# Altium schematic symbol library CVC_power.SCHLIB: 7 symbols
Pins are listed as number, name and electrical type; pins without a type are passive.

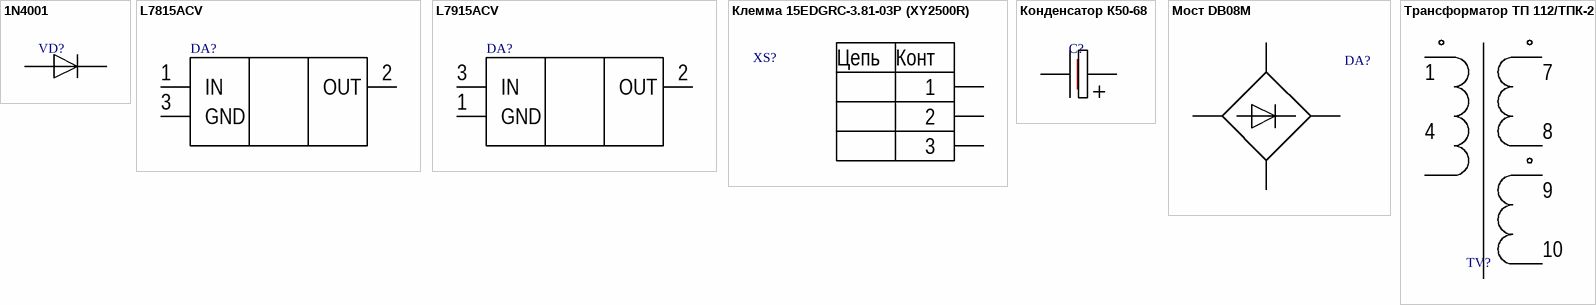
[diagram p0: symbols 1N4001 to Трансформатор ТП 112/ТПК-2]

## 1N4001
designator VD?  (value not drawn)
type: диоды
footprint DO-41
pins: 1 A, 2 K

## L7815ACV
designator DA?  (value not drawn)
type: микросхемы аналоговые
footprint TO220ABN
pins: 1 IN (power), 2 OUT (power), 3 GND (power)

## L7915ACV
designator DA?  (value not drawn)
type: микросхемы аналоговые
footprint TO220V
pins: 1 GND (power), 2 OUT (power), 3 IN (power)

## Клемма 15EDGRC-3.81-03P (XY2500R)
designator XS?  (value not drawn)
name: Клемма 15EDGRC-3.81-03P; type: коннекторы
footprint 15EDGRC-3.81-03P (XY2500R - клемма контакная угловая)
pins: 1, 2, 3
text: Цепь; Конт

## Конденсатор К50-68
designator C?  (value not drawn)
Электролитический конденсатор; dopusk: +80-20%; type: конденсаторы; codegr: 1002060109; name: К50-68; enter: *
footprint CAPPR2-5X11
footprint CAPPR7.5-16X30
footprint CAPPR5-10x20
footprint CAPPR2.5-6.3X5
footprint CAPPR2-5X11 - SIDE
footprint CAPR7.5-18X35.5
footprint CAPPR5-14x20
footprint CAPPR10-25X35
footprint CAPPR3.5-8X15
footprint CAPPR5-13x20
pins: 1 +, 2 -

## Мост DB08M
designator DA?, comment диодный мост  (value not drawn)
type: микросхемы аналоговые
footprint DF08M
pins: 1 +, 2 -, 3 ~, 4 ~

## Трансформатор ТП 112/ТПК-2
designator TV?  (value not drawn)
name: ТП 112 - 10/ТПК-2; type: Трансформаторы
footprint Transformer TP 112/TPK - 2
pins: 1 P1, 2 hidden, 3 hidden, 4 P4, 5 hidden, 6 hidden, 7 S7, 8 S8, 9 S9, 10 S10